# Altium footprint library PowerSSO-24.PcbLib: 1 footprints
Each footprint in its own frame and in the unit in brackets; x right, y up, seen from the top. Pads: shape width x height; smd on the part's side, far side on the other; paste and mask are expansions set on the pad; w line width, h text height; cw(c..) or ccw(c..) is an arc to the next point about the centre after c.
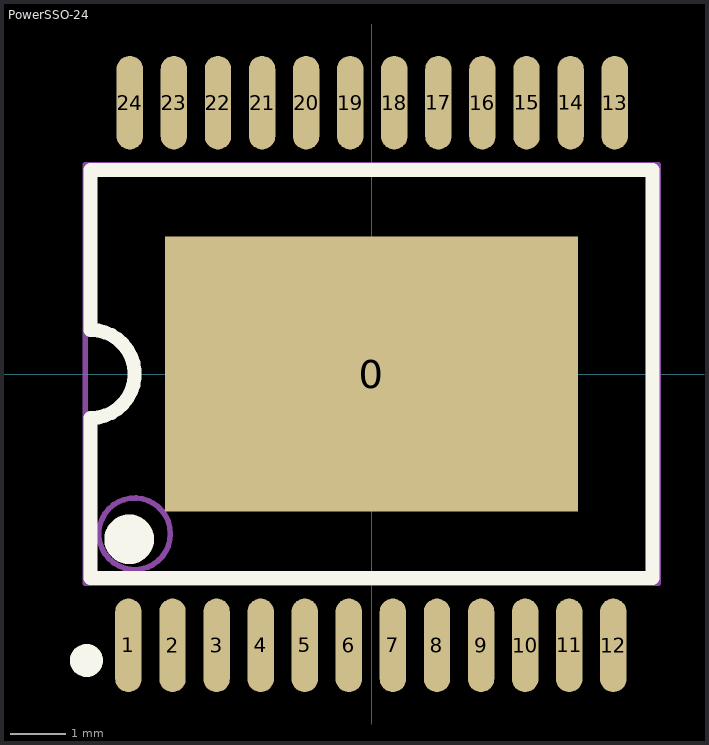
[diagram p0: the footprint, top view; thin cyan lines are the x and y axes]

## PowerSSO-24 [mm]
pads (25):
  rect 7.5x5 smd: 0(0,0)
  oval 0.48x1.7 smd: 1(-4.412,-4.925) 2(-3.612,-4.925) 3(-2.812,-4.925) 4(-2.012,-4.925) 5(-1.212,-4.925) 6(-0.412,-4.925) 7(0.388,-4.925) 8(1.188,-4.925) 9(1.988,-4.925) 10(2.788,-4.925) 11(3.588,-4.925) 12(4.388,-4.925) 13(4.412,4.925) 14(3.612,4.925) 15(2.812,4.925) 16(2.012,4.925) 17(1.212,4.925) 18(0.412,4.925) 19(-0.388,4.925) 20(-1.188,4.925) 21(-1.988,4.925) 22(-2.788,4.925) 23(-3.588,4.925) 24(-4.388,4.925)
Top Overlay:
  circle w0.5: c-4.4,-3 r0.2
  circle w0.3: c-5.175,-5.2 r0.15
  lines w0.254: -5.1,-3.7 -5.1,-0.8 ccw(c-5.1,0) -5.1,0.8 -5.1,3.7 5.1,3.7 5.1,-3.7 -5.1,-3.7
Mechanical 13:
  circle w0.1: c-4.3,-2.9 r0.65
  lines w0.1: -5.2,-3.8 5.2,-3.8 5.2,3.8 -5.2,3.8 -5.2,-3.8